# Altium schematic symbol library AP2114HA.Schlib: 1 symbol
Pins are listed as number, name and electrical type; pins without a type are passive.

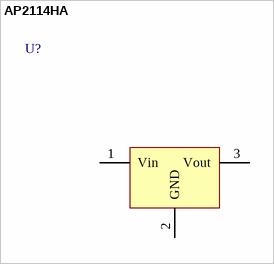
[diagram p0: symbol AP2114HA]

## AP2114HA
designator U?
pins: 1 Vin (power), 2 GND, 3 Vout (power)